# EAGLE library part V__VFD28-0517 (library ++Bedrahtet)
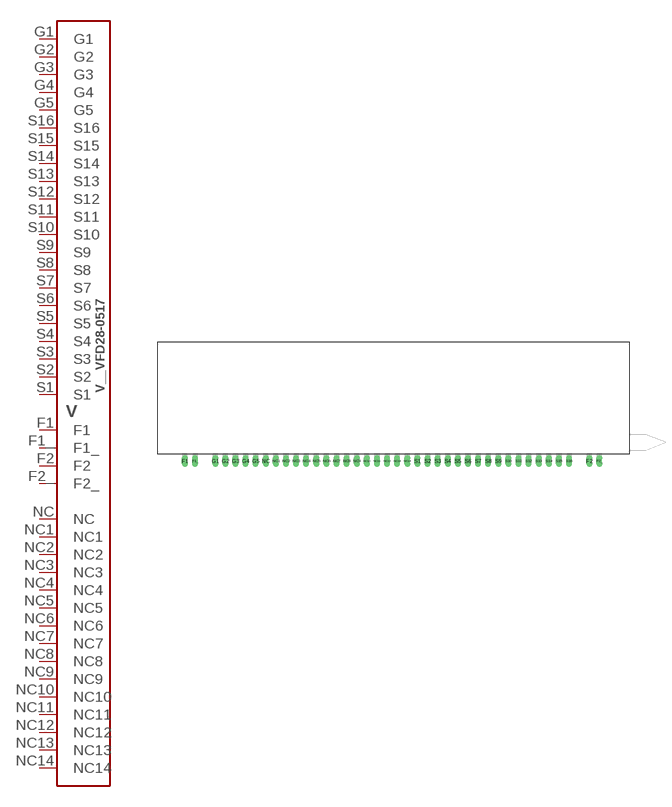
[diagram p40: symbol with the pads of VFD_VFD28-0517; footprint VFD_VFD28-0517]

Designator prefix V

## V__VFD28-0517  [VFD_VFD28-0517]
F1  F1
F1_  F1_
F2  F2
F2_  F2_
G1  G1
G2  G2
G3  G3
G4  G4
G5  G5
NC  NC
NC1  NC1
NC2  NC2
NC3  NC3
NC4  NC4
NC5  NC5
NC6  NC6
NC7  NC7
NC8  NC8
NC9  NC9
NC10  NC10
NC11  NC11
NC12  NC12
NC13  NC13
NC14  NC14
S1  S1
S2  S2
S3  S3
S4  S4
S5  S5
S6  S6
S7  S7
S8  S8
S9  S9
S10  S10
S11  S11
S12  S12
S13  S13
S14  S14
S15  S15
S16  S16

## Footprint VFD_VFD28-0517 (pad centres in mm)
drill 1 long: F1 0,0; F1_ 2.54,0; F2 101.6,0; F2_ 104.14,0; G1 7.62,0; G2 10.16,0; G3 12.7,0; G4 15.24,0; G5 17.78,0; NC 20.32,0; NC1 22.86,0; NC2 25.4,0; NC3 27.94,0; NC4 30.48,0; NC5 33.02,0; NC6 35.56,0; NC7 38.1,0; NC8 40.64,0; NC9 43.18,0; NC10 45.72,0; NC11 48.26,0; NC12 50.8,0; NC13 53.34,0; NC14 55.88,0; S1 58.42,0; S2 60.96,0; S3 63.5,0; S4 66.04,0; S5 68.58,0; S6 71.12,0; S7 73.66,0; S8 76.2,0; S9 78.74,0; S10 81.28,0; S11 83.82,0; S12 86.36,0; S13 88.9,0; S14 91.44,0; S15 93.98,0; S16 96.52,0